# EAGLE library part SI4735-SSOP (library cliffords)
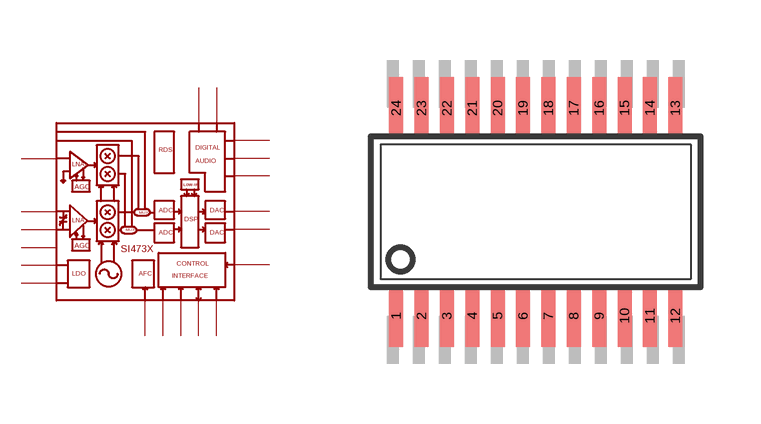
[diagram p3: symbol with the pads of SSOP24; footprint SSOP24]

Designator prefix -

## SI4735-SSOP  [SSOP24]
1  DOUT  pas
2  DFS  pas
3  DCLK
4  INT  pas
5  GPO1  pas
6  GND  pwr
7  GND  pwr
8  FMI  pas
9  RFGND  pwr
10  GND  pwr
11  GND  pwr
12  AMI  in
13  GND  pwr
14  GND  pwr
15  !RST  in
16  !SEN  in
17  SCLK  in
18  SDIO
19  RCLK  pas
20  VD  pwr
21  VA  pwr
22  DBYP
23  ROUT  out
24  LOUT  out

## Footprint SSOP24 (pad centres in mm)
SSOP24 for Si475X
smd 0.35 x 1.55: 1 -3.493,-2.6; 2 -2.857,-2.6; 3 -2.223,-2.6; 4 -1.587,-2.6; 5 -0.953,-2.6; 6 -0.318,-2.6; 7 0.318,-2.6; 8 0.953,-2.6; 9 1.587,-2.6; 10 2.223,-2.6; 11 2.857,-2.6; 12 3.493,-2.6; 13 3.493,2.6; 14 2.857,2.6; 15 2.223,2.6; 16 1.587,2.6; 17 0.953,2.6; 18 0.318,2.6; 19 -0.318,2.6; 20 -0.953,2.6; 21 -1.587,2.6; 22 -2.223,2.6; 23 -2.857,2.6; 24 -3.493,2.6